# Altium footprint library NTC thermistor.PcbLib: 1 footprints
Each footprint in its own frame and in the unit in brackets; x right, y up, seen from the top. Pads: shape width x height; smd on the part's side, far side on the other; paste and mask are expansions set on the pad; w line width, h text height; cw(c..) or ccw(c..) is an arc to the next point about the centre after c.
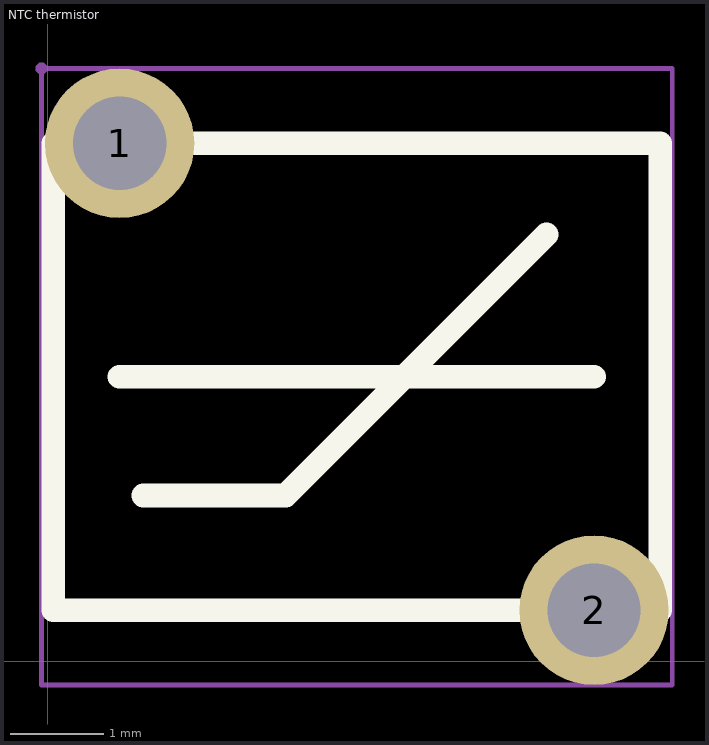
[diagram p0: the footprint, top view; thin cyan lines are the x and y axes]

## NTC thermistor [mm]
pads (2):
  round 1.6 hole 1 paste-2539.97 mask+0.051: 1(0.77,5.546) 2(5.85,0.546)
Top Overlay:
  lines w0.254: 0.77,3.046 5.85,3.046 ; 1.024,1.776 2.548,1.776 5.342,4.57 ; 0.06,0.546 0.06,5.546 6.56,5.546 6.56,0.546 0.06,0.546
Mechanical 15:
  region: 6.25,0.546 6.249,0.625 6.187,0.77 6.075,0.881 5.929,0.94 5.771,0.94 5.625,0.881 5.513,0.77 5.451,0.625 5.45,0.546 5.451,0.467 5.513,0.322 5.625,0.212 5.771,0.152 5.929,0.152 6.075,0.211 6.187,0.322 6.249,0.467 6.25,0.546
  region: 1.17,5.546 1.169,5.625 1.107,5.77 0.995,5.881 0.849,5.94 0.691,5.94 0.545,5.881 0.433,5.77 0.371,5.625 0.37,5.546 0.371,5.467 0.433,5.322 0.545,5.212 0.691,5.152 0.849,5.152 0.995,5.211 1.107,5.322 1.169,5.467 1.17,5.546
  region: -0.007,6.346 -0.007,6.371 -0.042,6.406 -0.092,6.406 -0.127,6.371 -0.127,6.346 -0.127,6.321 -0.092,6.286 -0.042,6.286 -0.007,6.321 -0.007,6.346
  lines w0.051: -0.067,-0.254 -0.067,6.346 6.687,6.346 6.687,-0.254 -0.067,-0.254